# EAGLE library part 1SAMACSYS_PARTS_USBLC6-4SC6Y (library TRACKER SOM EVAL BOARD v1.0)
STMICROELECTRONICS - USBLC6-4SC6Y - ESD Protection Device, 17 V, SOT-23, 6 Pins Source: Datasheet <https://componentsearchengine.com/Datasheets/1/USBLC6-4SC6Y.pdf>
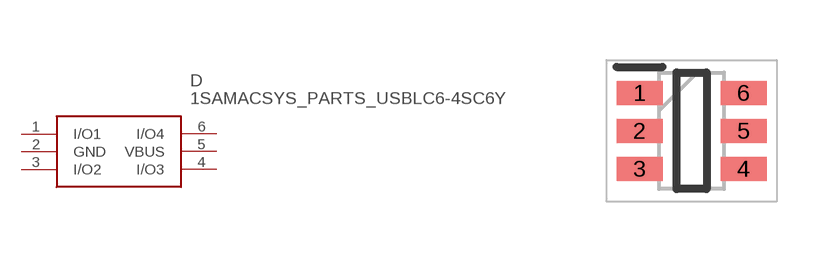
[diagram p0: symbol with the pads of 1SAMACSYS_PARTS_SOT95P280X145-6N; footprint 1SAMACSYS_PARTS_SOT95P280X145-6N]

Designator prefix D

## 1SAMACSYS_PARTS_USBLC6-4SC6Y (DESCRIPTION: STMICROELECTRONICS - USBLC6-4SC6Y - ESD Protection Device, 17 V, SOT-23, 6 Pins; HEIGHT: 1.45mm; MANUFACTURER_NAME: STMicroelectronics; MANUFACTURER_PART_NUMBER: USBLC6-4SC6Y; MOUSER_PART_NUMBER: 511-USBLC6-4SC6Y; MOUSER_PRICE-STOCK: https://www.mouser.com/Search/Refine.aspx?Keyword=511-USBLC6-4SC6Y)  [1SAMACSYS_PARTS_SOT95P280X145-6N]
1  I/O1
2  GND
3  I/O2
4  I/O3
5  VBUS
6  I/O4

## Footprint 1SAMACSYS_PARTS_SOT95P280X145-6N (pad centres in mm)
SOT23-6L
smd 1.15 x 0.6: 1 -1.3,0.95; 2 -1.3,0; 3 -1.3,-0.95; 4 1.3,-0.95; 5 1.3,0; 6 1.3,0.95